# EAGLE library part 33 (library display-lcd-lxd)
3.5 Numerical Digit, .35" (8.89) Direct Drive Display Additional Descriptors: Left Arrow, +, -
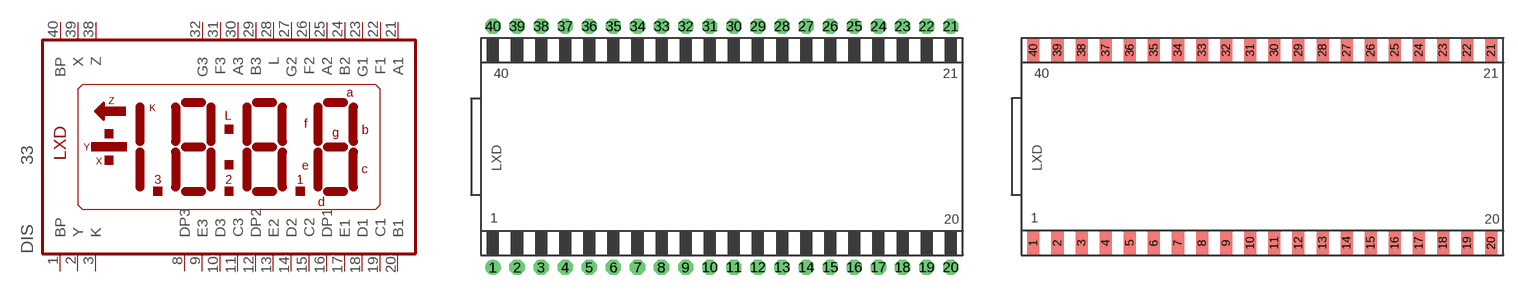
[diagram p10: symbol with the pads of 33-D; footprints 33-D, 33-E]

Designator prefix DIS

## 33DIP  [33-D]
1  BP  pas
2  Y  pas
3  K  pas
8  DP3  pas
9  E3  pas
10  D3  pas
11  C3  pas
12  DP2  pas
13  E2  pas
14  D2  pas
15  C2  pas
16  DP1  pas
17  E1  pas
18  D1  pas
19  C1  pas
20  B1  pas
21  A1  pas
22  F1  pas
23  G1  pas
24  B2  pas
25  A2  pas
26  F2  pas
27  G2  pas
28  L  pas
29  B3  pas
30  A3  pas
31  F3  pas
32  G3  pas
38  Z  pas
39  X  pas
40  BP  pas

## 33SMD  [33-E]
Pads as for 33-D

## Footprint 33-D (pad centres in mm)
Glass Size: 2.00" x 0.90" &nbsp &nbsp &nbsp &nbsp &nbsp &nbsp &nbsp &nbsp &nbsp (50.80 x 22.86)
drill 0.813 pad 1.6: 1 -24.13,-12.7
drill 0.813 pad 1.6 octagon: 2 -21.59,-12.7; 3 -19.05,-12.7; 4 -16.51,-12.7; 5 -13.97,-12.7; 6 -11.43,-12.7; 7 -8.89,-12.7; 8 -6.35,-12.7; 9 -3.81,-12.7; 10 -1.27,-12.7; 11 1.27,-12.7; 12 3.81,-12.7; 13 6.35,-12.7; 14 8.89,-12.7; 15 11.43,-12.7; 16 13.97,-12.7; 17 16.51,-12.7; 18 19.05,-12.7; 19 21.59,-12.7; 20 24.13,-12.7; 21 24.13,12.7; 22 21.59,12.7; 23 19.05,12.7; 24 16.51,12.7; 25 13.97,12.7; 26 11.43,12.7; 27 8.89,12.7; 28 6.35,12.7; 29 3.81,12.7; 30 1.27,12.7; 31 -1.27,12.7; 32 -3.81,12.7; 33 -6.35,12.7; 34 -8.89,12.7; 35 -11.43,12.7; 36 -13.97,12.7; 37 -16.51,12.7; 38 -19.05,12.7; 39 -21.59,12.7; 40 -24.13,12.7

## Footprint 33-E (pad centres in mm)
Glass Size: 2.00" x 0.90" &nbsp &nbsp &nbsp &nbsp &nbsp &nbsp &nbsp &nbsp &nbsp (50.80 x 22.86)
smd 1.27 x 2.54: 1 -24.13,-10.16; 2 -21.59,-10.16; 3 -19.05,-10.16; 4 -16.51,-10.16; 5 -13.97,-10.16; 6 -11.43,-10.16; 7 -8.89,-10.16; 8 -6.35,-10.16; 9 -3.81,-10.16; 10 -1.27,-10.16; 11 1.27,-10.16; 12 3.81,-10.16; 13 6.35,-10.16; 14 8.89,-10.16; 15 11.43,-10.16; 16 13.97,-10.16; 17 16.51,-10.16; 18 19.05,-10.16; 19 21.59,-10.16; 20 24.13,-10.16; 21 24.13,10.16; 22 21.59,10.16; 23 19.05,10.16; 24 16.51,10.16; 25 13.97,10.16; 26 11.43,10.16; 27 8.89,10.16; 28 6.35,10.16; 29 3.81,10.16; 30 1.27,10.16; 31 -1.27,10.16; 32 -3.81,10.16; 33 -6.35,10.16; 34 -8.89,10.16; 35 -11.43,10.16; 36 -13.97,10.16; 37 -16.51,10.16; 38 -19.05,10.16; 39 -21.59,10.16; 40 -24.13,10.16